# Altium schematic symbol library INA196_7_8.Schlib: 1 symbol
Pins are listed as number, name and electrical type; pins without a type are passive.

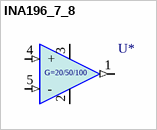
[diagram p0: symbol INA196_7_8]

## INA196_7_8
designator U*, comment INA196 G=20, INA197 G=50, INA198 G=100  (value not drawn)
High Voltage Current Shunt Monitor
footprint SOT23-5
pins: 1 Out (out) "OUT", 2 -U (power) "GND", 3 +U (power) "Ucc", 4 + (in) "+ IN", 5 - (in) "- IN"
text: G=20/50/100